# Altium schematic symbol library Transistors IGBT.SchLib: 2 symbols
Pins are listed as number, name and electrical type; pins without a type are passive.

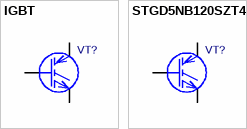
[diagram p0: symbols IGBT to STGD5NB120SZT4]

## IGBT
designator VT?  (value not drawn)
STGD5NB120SZT4; Value: *
footprint D-PAK (TO-252)
footprint D2PAK TO-263-2
pins: 1 G, 2 E, 3 C

## STGD5NB120SZT4
designator VT?  (value not drawn)
STGD5NB120SZT4; Value: *
footprint D-PAK (TO-252)
pins: 1 G, 2 E, 3 C